# Altium schematic symbol library memory_sdram_ddr3.SchLib: 16 symbols
Pins are listed as number, name and electrical type; pins without a type are passive.

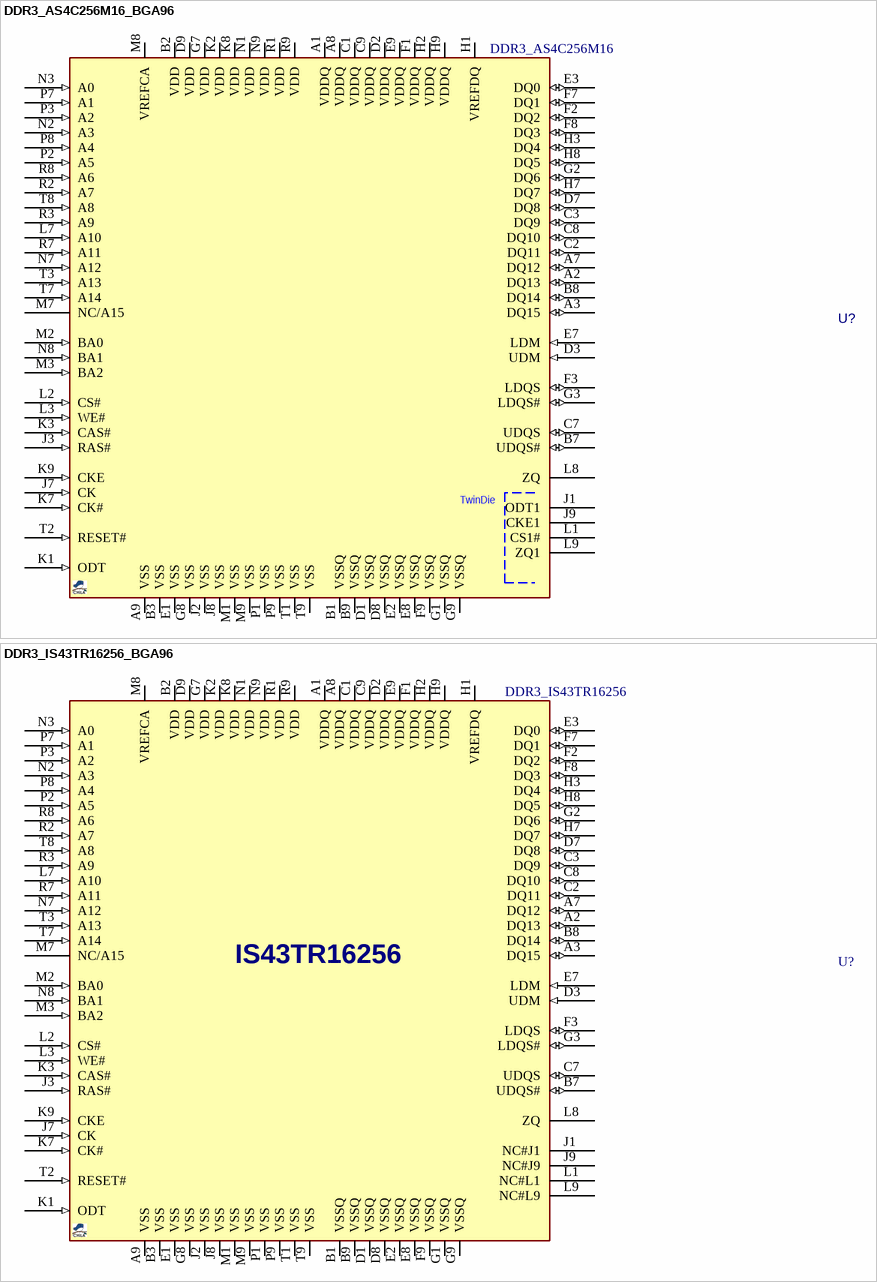
[diagram p0: symbols DDR3_AS4C256M16_BGA96 to DDR3_IS43TR16256_BGA96]

## DDR3_AS4C256M16_BGA96
designator U?, comment DDR3_AS4C256M16
DDR3L SDRAM, 4Gb (256Mb X16), 1.5V, FBGA-96; MANF_P#: AS4C256M16D3A-12BIN; MANF: ALLIANCE MEMORY; PARAM: 4Gb (256Mb X16), 800MHz; DESC: AS4C256M16D3A-12BAN; PARAM2: 1.5V, -40~95oC; ASSEMBLY: ASSEMBLY; PRICE: 10.9$; VALUE: DDR3_AS4C256M16
footprint BGA80_96_9X16B (96-Ball FBGA, 0.8mm pitch, 14x10x1.1 mm)
pins: A1 VDDQ (power), A2 DQ13 (io), A3 DQ15 (io), A7 DQ12 (io), A8 VDDQ (power), A9 VSS (power), B1 VSSQ (power), B2 VDD (power), B3 VSS (power), B7 UDQS# (io), B8 DQ14 (io), B9 VSSQ (power), C1 VDDQ (power), C2 DQ11 (io), C3 DQ9 (io), C7 UDQS (io), C8 DQ10 (io), C9 VDDQ (power), D1 VSSQ (power), D2 VDDQ (power), D3 UDM (in), D7 DQ8 (io), D8 VSSQ (power), D9 VDD (power), E1 VSS (power), E2 VSSQ (power), E3 DQ0 (io), E7 LDM (in), E8 VSSQ (power), E9 VDDQ (power), F1 VDDQ (power), F2 DQ2 (io), F3 LDQS (io), F7 DQ1 (io), F8 DQ3 (io), F9 VSSQ (power), G1 VSSQ (power), G2 DQ6 (io), G3 LDQS# (io), G7 VDD (power), G8 VSS (power), G9 VSSQ (power), H1 VREFDQ, H2 VDDQ (power), H3 DQ4 (io), H7 DQ7 (io), H8 DQ5 (io), H9 VDDQ (power), J1 ODT1, J2 VSS (power), J3 RAS# (in), J7 CK (in), J8 VSS (power), J9 CKE1, K1 ODT (in), K2 VDD (power), K3 CAS# (in), K7 CK# (in), K8 VDD (power), K9 CKE (in), L1 CS1#, L2 CS# (in), L3 WE# (in), L7 A10 (in), L8 ZQ, L9 ZQ1, M1 VSS (power), M2 BA0 (in), M3 BA2 (in), M7 NC/A15, M8 VREFCA, M9 VSS (power), N1 VDD (power), N2 A3 (in), N3 A0 (in), N7 A12 (in), N8 BA1 (in), N9 VDD (power), P1 VSS (power), P2 A5 (in), P3 A2 (in), P7 A1 (in), P8 A4 (in), P9 VSS (power), R1 VDD (power), R2 A7 (in), R3 A9 (in), R7 A11 (in), R8 A6 (in), R9 VDD (power), T1 VSS (power), T2 RESET# (in), T3 A13 (in), T7 A14 (in), T8 A8 (in), T9 VSS (power)
text: TwinDie

## DDR3_IS43TR16256_BGA96
designator U?, comment DDR3_IS43TR16256
DDR3 SDRAM, 4Gb (256Mb X16), 1.5V, FBGA-96; MANF: ISSI; MANF_P#: IS43TR16256A-125KBLI; PARAM2: 1.5V, 290mA, -40~+90oC; PARAM: DDR-1600, 800MHz; VALUE: DDR3_IS43TR16256
footprint BGA80_96_9X16B (96-Ball FBGA, 0.8mm pitch, 14x10x1.1 mm)
pins: A1 VDDQ (power), A2 DQ13 (io), A3 DQ15 (io), A7 DQ12 (io), A8 VDDQ (power), A9 VSS (power), B1 VSSQ (power), B2 VDD (power), B3 VSS (power), B7 UDQS# (io), B8 DQ14 (io), B9 VSSQ (power), C1 VDDQ (power), C2 DQ11 (io), C3 DQ9 (io), C7 UDQS (io), C8 DQ10 (io), C9 VDDQ (power), D1 VSSQ (power), D2 VDDQ (power), D3 UDM (in), D7 DQ8 (io), D8 VSSQ (power), D9 VDD (power), E1 VSS (power), E2 VSSQ (power), E3 DQ0 (io), E7 LDM (in), E8 VSSQ (power), E9 VDDQ (power), F1 VDDQ (power), F2 DQ2 (io), F3 LDQS (io), F7 DQ1 (io), F8 DQ3 (io), F9 VSSQ (power), G1 VSSQ (power), G2 DQ6 (io), G3 LDQS# (io), G7 VDD (power), G8 VSS (power), G9 VSSQ (power), H1 VREFDQ, H2 VDDQ (power), H3 DQ4 (io), H7 DQ7 (io), H8 DQ5 (io), H9 VDDQ (power), J1 NC#J1, J2 VSS (power), J3 RAS# (in), J7 CK (in), J8 VSS (power), J9 NC#J9, K1 ODT (in), K2 VDD (power), K3 CAS# (in), K7 CK# (in), K8 VDD (power), K9 CKE (in), L1 NC#L1, L2 CS# (in), L3 WE# (in), L7 A10 (in), L8 ZQ, L9 NC#L9, M1 VSS (power), M2 BA0 (in), M3 BA2 (in), M7 NC/A15, M8 VREFCA, M9 VSS (power), N1 VDD (power), N2 A3 (in), N3 A0 (in), N7 A12 (in), N8 BA1 (in), N9 VDD (power), P1 VSS (power), P2 A5 (in), P3 A2 (in), P7 A1 (in), P8 A4 (in), P9 VSS (power), R1 VDD (power), R2 A7 (in), R3 A9 (in), R7 A11 (in), R8 A6 (in), R9 VDD (power), T1 VSS (power), T2 RESET# (in), T3 A13 (in), T7 A14 (in), T8 A8 (in), T9 VSS (power)
text: IS43TR16256

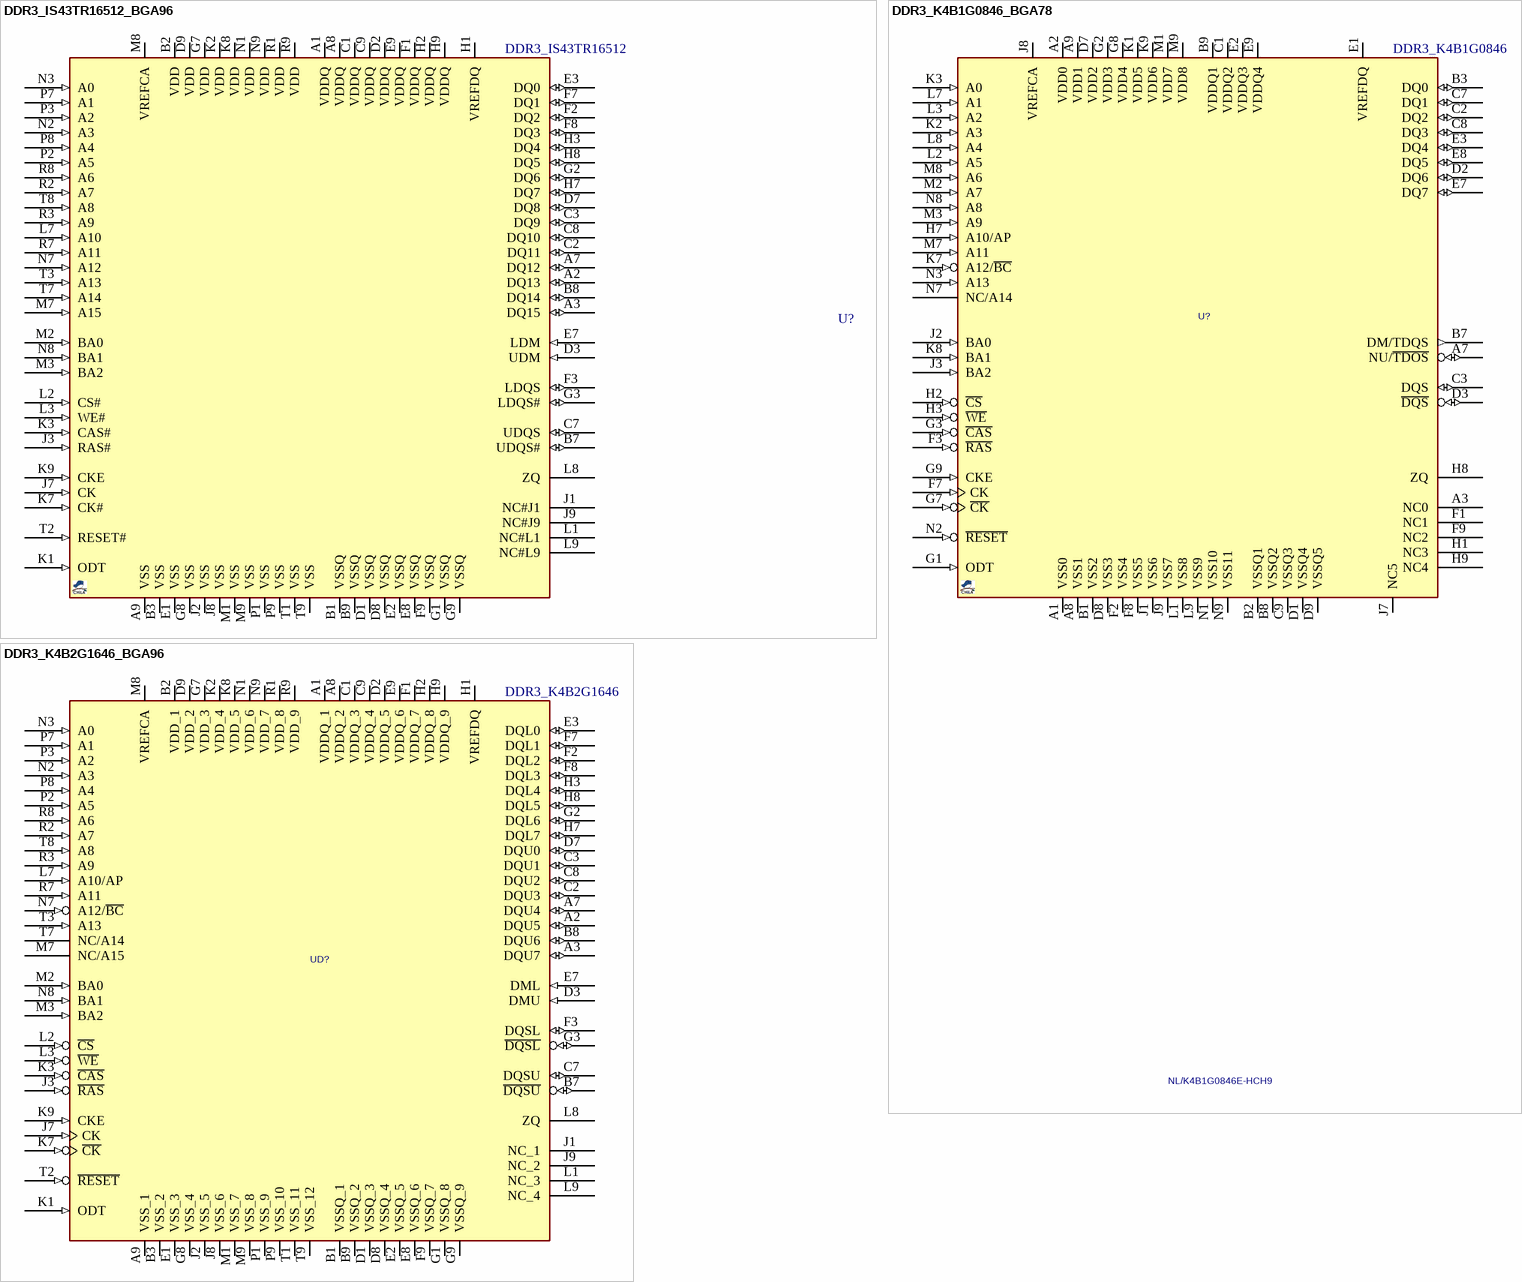
[diagram p1: symbols DDR3_IS43TR16512_BGA96 to DDR3_K4B2G1646_BGA96]

## DDR3_IS43TR16512_BGA96
designator U?, comment DDR3_IS43TR16512
DDR3L SDRAM, 8Gb (512Mb X16), 1.5V, FBGA-96; MANF: ISSI; MANF_P#: IS43TR16512A-125KBLI; PARAM2: 1.5V, -40~95oC; PARAM: 512Mb X16, 800MHz; PRICE: 40$; VALUE: DDR3_IS43TR16512
footprint BGA80_96_9X16B (96-Ball FBGA, 0.8mm pitch, 14x10x1.1 mm)
pins: A1 VDDQ (power), A2 DQ13 (io), A3 DQ15 (io), A7 DQ12 (io), A8 VDDQ (power), A9 VSS (power), B1 VSSQ (power), B2 VDD (power), B3 VSS (power), B7 UDQS# (io), B8 DQ14 (io), B9 VSSQ (power), C1 VDDQ (power), C2 DQ11 (io), C3 DQ9 (io), C7 UDQS (io), C8 DQ10 (io), C9 VDDQ (power), D1 VSSQ (power), D2 VDDQ (power), D3 UDM (in), D7 DQ8 (io), D8 VSSQ (power), D9 VDD (power), E1 VSS (power), E2 VSSQ (power), E3 DQ0 (io), E7 LDM (in), E8 VSSQ (power), E9 VDDQ (power), F1 VDDQ (power), F2 DQ2 (io), F3 LDQS (io), F7 DQ1 (io), F8 DQ3 (io), F9 VSSQ (power), G1 VSSQ (power), G2 DQ6 (io), G3 LDQS# (io), G7 VDD (power), G8 VSS (power), G9 VSSQ (power), H1 VREFDQ, H2 VDDQ (power), H3 DQ4 (io), H7 DQ7 (io), H8 DQ5 (io), H9 VDDQ (power), J1 NC#J1, J2 VSS (power), J3 RAS# (in), J7 CK (in), J8 VSS (power), J9 NC#J9, K1 ODT (in), K2 VDD (power), K3 CAS# (in), K7 CK# (in), K8 VDD (power), K9 CKE (in), L1 NC#L1, L2 CS# (in), L3 WE# (in), L7 A10 (in), L8 ZQ, L9 NC#L9, M1 VSS (power), M2 BA0 (in), M3 BA2 (in), M7 A15 (in), M8 VREFCA, M9 VSS (power), N1 VDD (power), N2 A3 (in), N3 A0 (in), N7 A12 (in), N8 BA1 (in), N9 VDD (power), P1 VSS (power), P2 A5 (in), P3 A2 (in), P7 A1 (in), P8 A4 (in), P9 VSS (power), R1 VDD (power), R2 A7 (in), R3 A9 (in), R7 A11 (in), R8 A6 (in), R9 VDD (power), T1 VSS (power), T2 RESET# (in), T3 A13 (in), T7 A14 (in), T8 A8 (in), T9 VSS (power)

## DDR3_K4B1G0846_BGA78
designator U?, comment NL/K4B1G0846E-HCH9  value DDR3_K4B1G0846
DDR3 SDRAM, 1Gb (64M X8) DDR3 1333, FBGA78p; MANF: SAMSUNG; MANF_P#: K4B1G0846E-HCH9
footprint BGA80_78_10X12 (BGA_78 7.5X11mm, 9.5X11.5mm, 10.5X12mm)
pins: A1 VSS0 (power), A2 VDD0 (power), A3 NC0, A7 NU/~{TDOS} (io), A8 VSS1 (power), A9 VDD1 (power), B1 VSS2 (power), B2 VSSQ1 (power), B3 DQ0 (io), B7 DM/TDQS (out), B8 VSSQ2 (power), B9 VDDQ1 (power), C1 VDDQ2 (power), C2 DQ2 (io), C3 DQS (io), C7 DQ1 (io), C8 DQ3 (io), C9 VSSQ3 (power), D1 VSSQ4 (power), D2 DQ6 (io), D3 ~{DQS} (io), D7 VDD2 (power), D8 VSS3 (power), D9 VSSQ5 (power), E1 VREFDQ (power), E2 VDDQ3 (power), E3 DQ4 (io), E7 DQ7 (io), E8 DQ5 (io), E9 VDDQ4 (power), F1 NC1, F2 VSS4 (power), F3 ~{RAS} (in), F7 CK (in), F8 VSS5 (power), F9 NC2, G1 ODT (in), G2 VDD3 (power), G3 ~{CAS} (in), G7 ~{CK} (in), G8 VDD4 (power), G9 CKE (in), H1 NC3, H2 ~{CS} (in), H3 ~{WE} (in), H7 A10/AP (in), H8 ZQ (power), H9 NC4, J1 VSS6 (power), J2 BA0 (in), J3 BA2 (in), J7 NC5, J8 VREFCA (power), J9 VSS7 (power), K1 VDD5 (power), K2 A3 (in), K3 A0 (in), K7 A12/~{BC} (in), K8 BA1 (in), K9 VDD6 (power), L1 VSS8 (power), L2 A5 (in), L3 A2 (in), L7 A1 (in), L8 A4 (in), L9 VSS9 (power), M1 VDD7 (power), M2 A7 (in), M3 A9 (in), M7 A11 (in), M8 A6 (in), M9 VDD8 (power), N1 VSS10 (power), N2 ~{RESET} (in), N3 A13 (in), N7 NC/A14, N8 A8 (in), N9 VSS11 (power)

## DDR3_K4B2G1646_BGA96
designator UD?, comment DDR3_K4B2G1646
DDR3 SDRAM, 2Gb (128M X16), DDR3 1333 FBGA96; MANF: SAMSUNG; MANF_P#: K4B2G1646B-HCF7; VALUE: DDR3_K4B2G1646
footprint BGA80_96_9X16B (96-Ball FBGA, 0.8mm pitch, 14x10x1.1 mm)
pins: A1 VDDQ_1 (power), A2 DQU5 (io), A3 DQU7 (io), A7 DQU4 (io), A8 VDDQ_2 (power), A9 VSS_1 (power), B1 VSSQ_1 (power), B2 VDD_1 (power), B3 VSS_2 (power), B7 ~{DQSU} (io), B8 DQU6 (io), B9 VSSQ_2 (power), C1 VDDQ_3 (power), C2 DQU3 (io), C3 DQU1 (io), C7 DQSU (io), C8 DQU2 (io), C9 VDDQ_4 (power), D1 VSSQ_3 (power), D2 VDDQ_5 (power), D3 DMU (in), D7 DQU0 (io), D8 VSSQ_4 (power), D9 VDD_2 (power), E1 VSS_3 (power), E2 VSSQ_5 (power), E3 DQL0 (io), E7 DML (in), E8 VSSQ_6 (power), E9 VDDQ_6 (power), F1 VDDQ_7 (power), F2 DQL2 (io), F3 DQSL (io), F7 DQL1 (io), F8 DQL3 (io), F9 VSSQ_7 (power), G1 VSSQ_8 (power), G2 DQL6 (io), G3 ~{DQSL} (io), G7 VDD_3 (power), G8 VSS_4 (power), G9 VSSQ_9 (power), H1 VREFDQ (power), H2 VDDQ_8 (power), H3 DQL4 (io), H7 DQL7 (io), H8 DQL5 (io), H9 VDDQ_9 (power), J1 NC_1, J2 VSS_5 (power), J3 ~{RAS} (in), J7 CK (in), J8 VSS_6 (power), J9 NC_2, K1 ODT (in), K2 VDD_4 (power), K3 ~{CAS} (in), K7 ~{CK} (in), K8 VDD_5 (power), K9 CKE (in), L1 NC_3, L2 ~{CS} (in), L3 ~{WE} (in), L7 A10/AP (in), L8 ZQ, L9 NC_4, M1 VSS_7 (power), M2 BA0 (in), M3 BA2 (in), M7 NC/A15, M8 VREFCA (power), M9 VSS_8 (power), N1 VDD_6 (power), N2 A3 (in), N3 A0 (in), N7 A12/~{BC} (in), N8 BA1 (in), N9 VDD_7 (power), P1 VSS_9 (power), P2 A5 (in), P3 A2 (in), P7 A1 (in), P8 A4 (in), P9 VSS_10 (power), R1 VDD_8 (power), R2 A7 (in), R3 A9 (in), R7 A11 (in), R8 A6 (in), R9 VDD_9 (power), T1 VSS_11 (power), T2 ~{RESET} (in), T3 A13 (in), T7 NC/A14, T8 A8 (in), T9 VSS_12 (power)

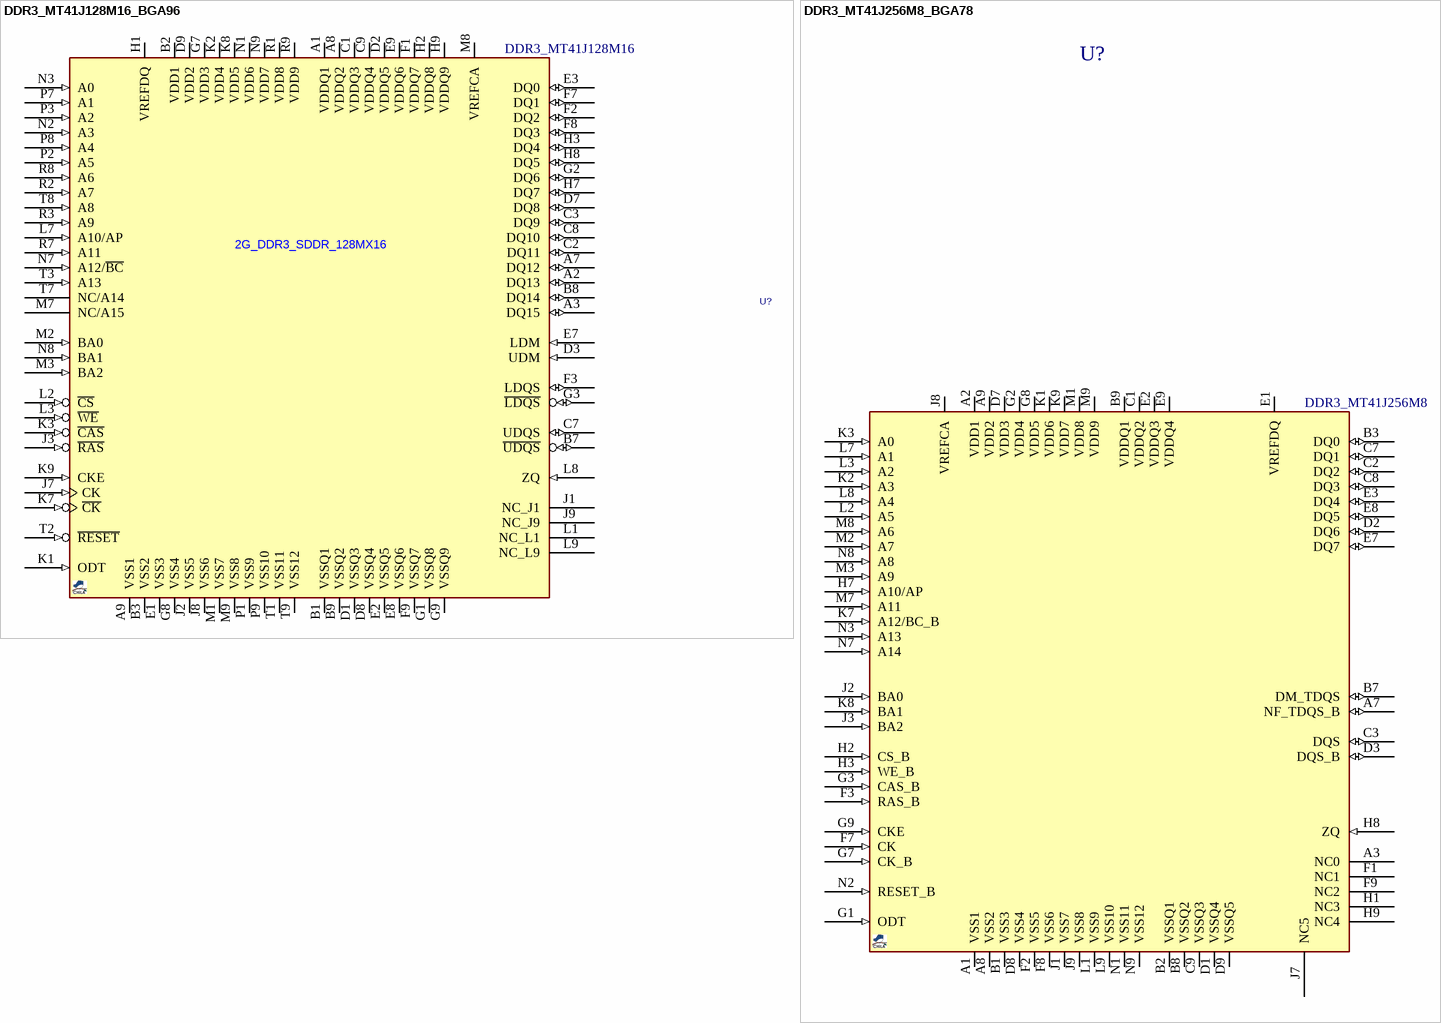
[diagram p2: symbols DDR3_MT41J128M16_BGA96 to DDR3_MT41J256M8_BGA78]

## DDR3_MT41J128M16_BGA96
designator U?, comment DDR3_MT41J128M16
DDR3 SDRAM, 2Gb (128Mb X16), 667MHz, 1.5V, FBGA-96; DESC: 2G (128M x 16), 667MHz, 96-FBGA (9x14); MANF: MICRON; MANF_P#: MT41J128M16HA-15E:D; PARAM2: 1.5V; VALUE: DDR3_MT41J128M16
footprint BGA80_96_9X16B (96-Ball FBGA, 0.8mm pitch, 14x10x1.1 mm)
pins: A1 VDDQ1 (power), A2 DQ13 (io), A3 DQ15 (io), A7 DQ12 (io), A8 VDDQ2 (power), A9 VSS1 (power), B1 VSSQ1 (power), B2 VDD1 (power), B3 VSS2 (power), B7 ~{UDQS} (io), B8 DQ14 (io), B9 VSSQ2 (power), C1 VDDQ3 (power), C2 DQ11 (io), C3 DQ9 (io), C7 UDQS (io), C8 DQ10 (io), C9 VDDQ4 (power), D1 VSSQ3 (power), D2 VDDQ5 (power), D3 UDM (in), D7 DQ8 (io), D8 VSSQ4 (power), D9 VDD2 (power), E1 VSS3 (power), E2 VSSQ5 (power), E3 DQ0 (io), E7 LDM (in), E8 VSSQ6 (power), E9 VDDQ6 (power), F1 VDDQ7 (power), F2 DQ2 (io), F3 LDQS (io), F7 DQ1 (io), F8 DQ3 (io), F9 VSSQ7 (power), G1 VSSQ8 (power), G2 DQ6 (io), G3 ~{LDQS} (io), G7 VDD3 (power), G8 VSS4 (power), G9 VSSQ9 (power), H1 VREFDQ, H2 VDDQ8 (power), H3 DQ4 (io), H7 DQ7 (io), H8 DQ5 (io), H9 VDDQ9 (power), J1 NC_J1, J2 VSS5 (power), J3 ~{RAS} (in), J7 CK (in), J8 VSS6 (power), J9 NC_J9, K1 ODT (in), K2 VDD4 (power), K3 ~{CAS} (in), K7 ~{CK} (in), K8 VDD5 (power), K9 CKE (in), L1 NC_L1, L2 ~{CS} (in), L3 ~{WE} (in), L7 A10/AP (in), L8 ZQ (in), L9 NC_L9, M1 VSS7 (power), M2 BA0 (in), M3 BA2 (in), M7 NC/A15, M8 VREFCA, M9 VSS8 (power), N1 VDD6 (power), N2 A3 (in), N3 A0 (in), N7 A12/~{BC} (in), N8 BA1 (in), N9 VDD7 (power), P1 VSS9 (power), P2 A5 (in), P3 A2 (in), P7 A1 (in), P8 A4 (in), P9 VSS10 (power), R1 VDD8 (power), R2 A7 (in), R3 A9 (in), R7 A11 (in), R8 A6 (in), R9 VDD9 (power), T1 VSS11 (power), T2 ~{RESET} (in), T3 A13 (in), T7 NC/A14, T8 A8 (in), T9 VSS12 (power)
text: 2G_DDR3_SDDR_128MX16

## DDR3_MT41J256M8_BGA78
designator U?, comment value DDR3_MT41J256M8  (hidden comment: MT41J256M8DA_107)
DDR3 SDRAM, 2Gb (256M X8), FBGA-78; MANF: MICRON; MANF_P#: MT41J256M8HX-15E; DESC: DDR3 SDRAM, 2Gb (256M X8), FBGA-78
footprint BGA80_78_10X12 (BGA_78 7.5X11mm, 9.5X11.5mm, 10.5X12mm)
pins: A1 VSS1 (power), A2 VDD1 (power), A3 NC0, A7 NF_TDQS_B (io), A8 VSS2 (power), A9 VDD2 (power), B1 VSS3 (power), B2 VSSQ1 (power), B3 DQ0 (io), B7 DM_TDQS (io), B8 VSSQ2 (power), B9 VDDQ1 (power), C1 VDDQ2 (power), C2 DQ2 (io), C3 DQS (io), C7 DQ1 (io), C8 DQ3 (io), C9 VSSQ3 (power), D1 VSSQ4 (power), D2 DQ6 (io), D3 DQS_B (io), D7 VDD3 (power), D8 VSS4 (power), D9 VSSQ5 (power), E1 VREFDQ, E2 VDDQ3 (power), E3 DQ4 (io), E7 DQ7 (io), E8 DQ5 (io), E9 VDDQ4 (power), F1 NC1, F2 VSS5 (power), F3 RAS_B (in), F7 CK (in), F8 VSS6 (power), F9 NC2, G1 ODT (in), G2 VDD4 (power), G3 CAS_B (in), G7 CK_B (in), G8 VDD5 (power), G9 CKE (in), H1 NC3, H2 CS_B (in), H3 WE_B (in), H7 A10/AP (in), H8 ZQ (in), H9 NC4, J1 VSS7 (power), J2 BA0 (in), J3 BA2 (in), J7 NC5, J8 VREFCA, J9 VSS8 (power), K1 VDD6 (power), K2 A3 (in), K3 A0 (in), K7 A12/BC_B (in), K8 BA1 (in), K9 VDD7 (power), L1 VSS9 (power), L2 A5 (in), L3 A2 (in), L7 A1 (in), L8 A4 (in), L9 VSS10 (power), M1 VDD8 (power), M2 A7 (in), M3 A9 (in), M7 A11 (in), M8 A6 (in), M9 VDD9 (power), N1 VSS11 (power), N2 RESET_B (in), N3 A13 (in), N7 A14 (in), N8 A8 (in), N9 VSS12 (power)

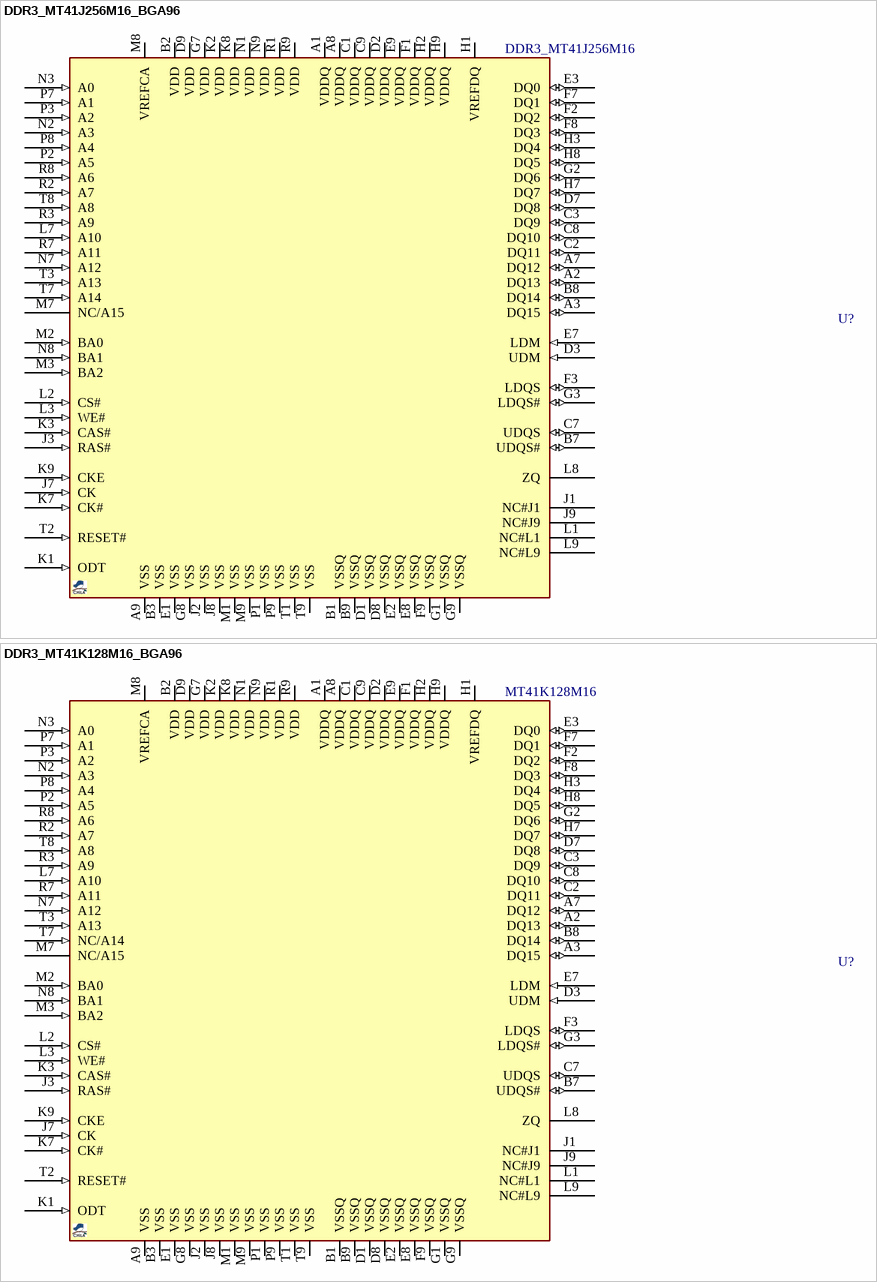
[diagram p3: symbols DDR3_MT41J256M16_BGA96 to DDR3_MT41K128M16_BGA96]

## DDR3_MT41J256M16_BGA96
designator U?, comment DDR3_MT41J256M16
DDR3 SDRAM, 4Gb (256Mb X16), 1.5V, FBGA-96; DESC: MT41J256M16RE-15E; MANF: MICRON; MANF_P#: MT41J256M16LY-091G:N,  MT41J128M16JT-125:K TR; PARAM2: 1.5V, 0~95oC; PARAM: 256Mb X16,; PRICE: 11$; VALUE: DDR3_MT41J256M16
footprint BGA80_96_9X16B (96-Ball FBGA, 0.8mm pitch, 14x10x1.1 mm)
pins: A1 VDDQ (power), A2 DQ13 (io), A3 DQ15 (io), A7 DQ12 (io), A8 VDDQ (power), A9 VSS (power), B1 VSSQ (power), B2 VDD (power), B3 VSS (power), B7 UDQS# (io), B8 DQ14 (io), B9 VSSQ (power), C1 VDDQ (power), C2 DQ11 (io), C3 DQ9 (io), C7 UDQS (io), C8 DQ10 (io), C9 VDDQ (power), D1 VSSQ (power), D2 VDDQ (power), D3 UDM (in), D7 DQ8 (io), D8 VSSQ (power), D9 VDD (power), E1 VSS (power), E2 VSSQ (power), E3 DQ0 (io), E7 LDM (in), E8 VSSQ (power), E9 VDDQ (power), F1 VDDQ (power), F2 DQ2 (io), F3 LDQS (io), F7 DQ1 (io), F8 DQ3 (io), F9 VSSQ (power), G1 VSSQ (power), G2 DQ6 (io), G3 LDQS# (io), G7 VDD (power), G8 VSS (power), G9 VSSQ (power), H1 VREFDQ, H2 VDDQ (power), H3 DQ4 (io), H7 DQ7 (io), H8 DQ5 (io), H9 VDDQ (power), J1 NC#J1, J2 VSS (power), J3 RAS# (in), J7 CK (in), J8 VSS (power), J9 NC#J9, K1 ODT (in), K2 VDD (power), K3 CAS# (in), K7 CK# (in), K8 VDD (power), K9 CKE (in), L1 NC#L1, L2 CS# (in), L3 WE# (in), L7 A10 (in), L8 ZQ, L9 NC#L9, M1 VSS (power), M2 BA0 (in), M3 BA2 (in), M7 NC/A15, M8 VREFCA, M9 VSS (power), N1 VDD (power), N2 A3 (in), N3 A0 (in), N7 A12 (in), N8 BA1 (in), N9 VDD (power), P1 VSS (power), P2 A5 (in), P3 A2 (in), P7 A1 (in), P8 A4 (in), P9 VSS (power), R1 VDD (power), R2 A7 (in), R3 A9 (in), R7 A11 (in), R8 A6 (in), R9 VDD (power), T1 VSS (power), T2 RESET# (in), T3 A13 (in), T7 A14 (in), T8 A8 (in), T9 VSS (power)

## DDR3_MT41K128M16_BGA96
designator U?, comment MT41K128M16
DDR3 SDRAM, 2Gb (128Mb X16), 1.35V, FBGA-96; MANF: MICRON; MANF_P#: MT41K128M16JT-125; PARAM2: 1.35V; VALUE: MT41K128M16
footprint BGA80_96_9X16B (96-Ball FBGA, 0.8mm pitch, 14x10x1.1 mm)
pins: A1 VDDQ (power), A2 DQ13 (io), A3 DQ15 (io), A7 DQ12 (io), A8 VDDQ (power), A9 VSS (power), B1 VSSQ (power), B2 VDD (power), B3 VSS (power), B7 UDQS# (io), B8 DQ14 (io), B9 VSSQ (power), C1 VDDQ (power), C2 DQ11 (io), C3 DQ9 (io), C7 UDQS (io), C8 DQ10 (io), C9 VDDQ (power), D1 VSSQ (power), D2 VDDQ (power), D3 UDM (in), D7 DQ8 (io), D8 VSSQ (power), D9 VDD (power), E1 VSS (power), E2 VSSQ (power), E3 DQ0 (io), E7 LDM (in), E8 VSSQ (power), E9 VDDQ (power), F1 VDDQ (power), F2 DQ2 (io), F3 LDQS (io), F7 DQ1 (io), F8 DQ3 (io), F9 VSSQ (power), G1 VSSQ (power), G2 DQ6 (io), G3 LDQS# (io), G7 VDD (power), G8 VSS (power), G9 VSSQ (power), H1 VREFDQ, H2 VDDQ (power), H3 DQ4 (io), H7 DQ7 (io), H8 DQ5 (io), H9 VDDQ (power), J1 NC#J1, J2 VSS (power), J3 RAS# (in), J7 CK (in), J8 VSS (power), J9 NC#J9, K1 ODT (in), K2 VDD (power), K3 CAS# (in), K7 CK# (in), K8 VDD (power), K9 CKE (in), L1 NC#L1, L2 CS# (in), L3 WE# (in), L7 A10 (in), L8 ZQ, L9 NC#L9, M1 VSS (power), M2 BA0 (in), M3 BA2 (in), M7 NC/A15, M8 VREFCA, M9 VSS (power), N1 VDD (power), N2 A3 (in), N3 A0 (in), N7 A12 (in), N8 BA1 (in), N9 VDD (power), P1 VSS (power), P2 A5 (in), P3 A2 (in), P7 A1 (in), P8 A4 (in), P9 VSS (power), R1 VDD (power), R2 A7 (in), R3 A9 (in), R7 A11 (in), R8 A6 (in), R9 VDD (power), T1 VSS (power), T2 RESET# (in), T3 A13 (in), T7 NC/A14 (in), T8 A8 (in), T9 VSS (power)

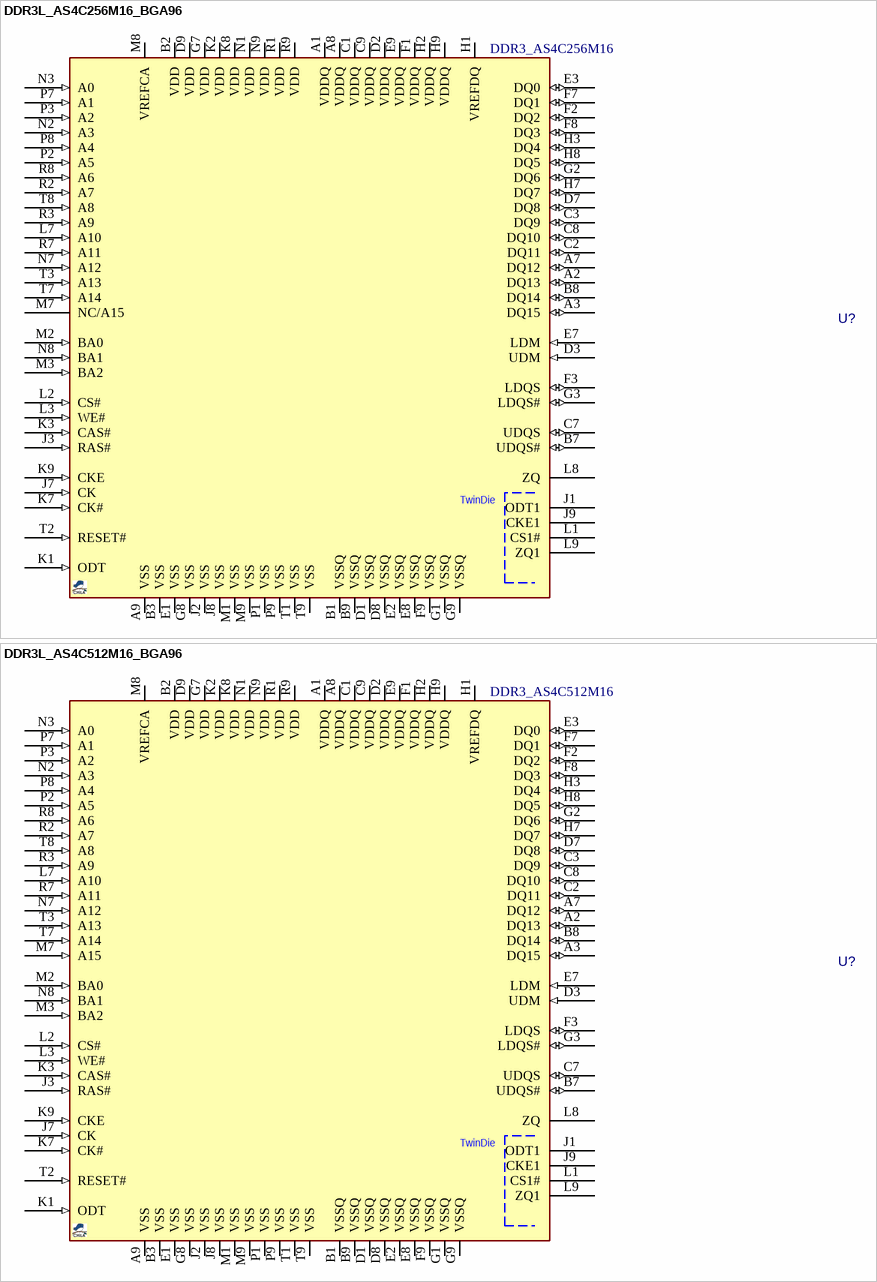
[diagram p4: symbols DDR3L_AS4C256M16_BGA96 to DDR3L_AS4C512M16_BGA96]

## DDR3L_AS4C256M16_BGA96
designator U?, comment DDR3_AS4C256M16
DDR3L SDRAM, 4Gb (256Mb X16), 1.35V, FBGA-96; MANF_P#: AS4C256M16D3LB-12BIN; MANF: ALLIANCE MEMORY; PARAM: 4Gb (256Mb X16), 800MHz; DESC: AS4C256M16D3LA-12BIN; PARAM2: 1.35V, -40~95oC; ASSEMBLY: ASSEMBLY; PRICE: 10.4$; VALUE: DDR3_AS4C256M16
footprint BGA80_96_9X16B (96-Ball FBGA, 0.8mm pitch, 14x10x1.1 mm)
pins: A1 VDDQ (power), A2 DQ13 (io), A3 DQ15 (io), A7 DQ12 (io), A8 VDDQ (power), A9 VSS (power), B1 VSSQ (power), B2 VDD (power), B3 VSS (power), B7 UDQS# (io), B8 DQ14 (io), B9 VSSQ (power), C1 VDDQ (power), C2 DQ11 (io), C3 DQ9 (io), C7 UDQS (io), C8 DQ10 (io), C9 VDDQ (power), D1 VSSQ (power), D2 VDDQ (power), D3 UDM (in), D7 DQ8 (io), D8 VSSQ (power), D9 VDD (power), E1 VSS (power), E2 VSSQ (power), E3 DQ0 (io), E7 LDM (in), E8 VSSQ (power), E9 VDDQ (power), F1 VDDQ (power), F2 DQ2 (io), F3 LDQS (io), F7 DQ1 (io), F8 DQ3 (io), F9 VSSQ (power), G1 VSSQ (power), G2 DQ6 (io), G3 LDQS# (io), G7 VDD (power), G8 VSS (power), G9 VSSQ (power), H1 VREFDQ, H2 VDDQ (power), H3 DQ4 (io), H7 DQ7 (io), H8 DQ5 (io), H9 VDDQ (power), J1 ODT1, J2 VSS (power), J3 RAS# (in), J7 CK (in), J8 VSS (power), J9 CKE1, K1 ODT (in), K2 VDD (power), K3 CAS# (in), K7 CK# (in), K8 VDD (power), K9 CKE (in), L1 CS1#, L2 CS# (in), L3 WE# (in), L7 A10 (in), L8 ZQ, L9 ZQ1, M1 VSS (power), M2 BA0 (in), M3 BA2 (in), M7 NC/A15, M8 VREFCA, M9 VSS (power), N1 VDD (power), N2 A3 (in), N3 A0 (in), N7 A12 (in), N8 BA1 (in), N9 VDD (power), P1 VSS (power), P2 A5 (in), P3 A2 (in), P7 A1 (in), P8 A4 (in), P9 VSS (power), R1 VDD (power), R2 A7 (in), R3 A9 (in), R7 A11 (in), R8 A6 (in), R9 VDD (power), T1 VSS (power), T2 RESET# (in), T3 A13 (in), T7 A14 (in), T8 A8 (in), T9 VSS (power)
text: TwinDie

## DDR3L_AS4C512M16_BGA96
designator U?, comment DDR3_AS4C512M16
DDR3L SDRAM, 8Gb (512Mb X16), 1.35V, FBGA-96; MANF_P#: AS4C512M16D3L-12BIN; MANF: ALLIANCE MEMORY; PARAM2: 1.35V, -40~95oC; ASSEMBLY: ASSEMBLY; PARAM: 8Gb (512Mb X16); PRICE: 31$; VALUE: DDR3_AS4C512M16
footprint BGA80_96_9X16B (96-Ball FBGA, 0.8mm pitch, 14x10x1.1 mm)
pins: A1 VDDQ (power), A2 DQ13 (io), A3 DQ15 (io), A7 DQ12 (io), A8 VDDQ (power), A9 VSS (power), B1 VSSQ (power), B2 VDD (power), B3 VSS (power), B7 UDQS# (io), B8 DQ14 (io), B9 VSSQ (power), C1 VDDQ (power), C2 DQ11 (io), C3 DQ9 (io), C7 UDQS (io), C8 DQ10 (io), C9 VDDQ (power), D1 VSSQ (power), D2 VDDQ (power), D3 UDM (in), D7 DQ8 (io), D8 VSSQ (power), D9 VDD (power), E1 VSS (power), E2 VSSQ (power), E3 DQ0 (io), E7 LDM (in), E8 VSSQ (power), E9 VDDQ (power), F1 VDDQ (power), F2 DQ2 (io), F3 LDQS (io), F7 DQ1 (io), F8 DQ3 (io), F9 VSSQ (power), G1 VSSQ (power), G2 DQ6 (io), G3 LDQS# (io), G7 VDD (power), G8 VSS (power), G9 VSSQ (power), H1 VREFDQ, H2 VDDQ (power), H3 DQ4 (io), H7 DQ7 (io), H8 DQ5 (io), H9 VDDQ (power), J1 ODT1, J2 VSS (power), J3 RAS# (in), J7 CK (in), J8 VSS (power), J9 CKE1, K1 ODT (in), K2 VDD (power), K3 CAS# (in), K7 CK# (in), K8 VDD (power), K9 CKE (in), L1 CS1#, L2 CS# (in), L3 WE# (in), L7 A10 (in), L8 ZQ, L9 ZQ1, M1 VSS (power), M2 BA0 (in), M3 BA2 (in), M7 A15 (in), M8 VREFCA, M9 VSS (power), N1 VDD (power), N2 A3 (in), N3 A0 (in), N7 A12 (in), N8 BA1 (in), N9 VDD (power), P1 VSS (power), P2 A5 (in), P3 A2 (in), P7 A1 (in), P8 A4 (in), P9 VSS (power), R1 VDD (power), R2 A7 (in), R3 A9 (in), R7 A11 (in), R8 A6 (in), R9 VDD (power), T1 VSS (power), T2 RESET# (in), T3 A13 (in), T7 A14 (in), T8 A8 (in), T9 VSS (power)
text: TwinDie

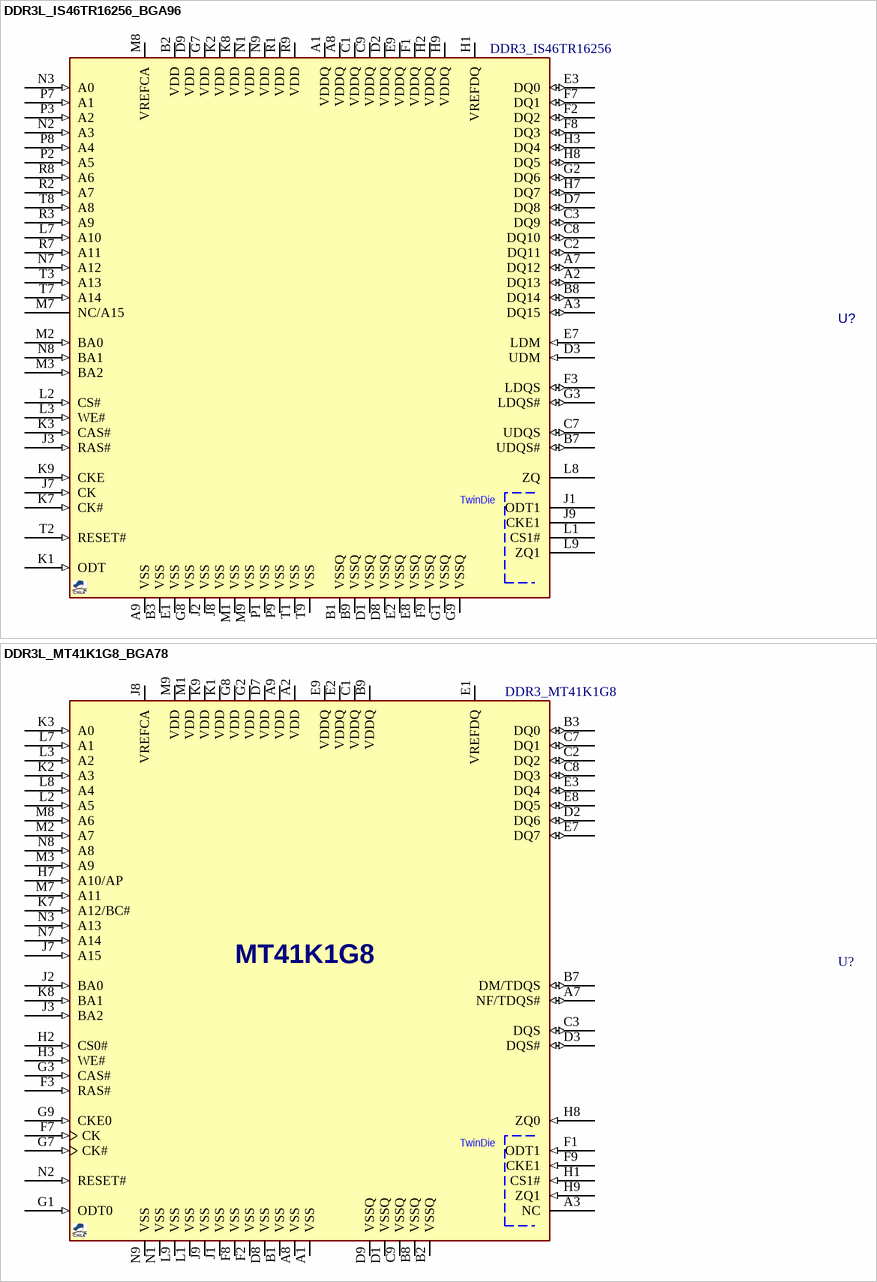
[diagram p5: symbols DDR3L_IS46TR16256_BGA96 to DDR3L_MT41K1G8_BGA78]

## DDR3L_IS46TR16256_BGA96
designator U?, comment DDR3_IS46TR16256
DDR3L SDRAM, 4Gb (256Mb X16), 1.35V, FBGA-96; MANF_P#: IS46TR16256AL-15HBLA2; MANF: ISSI; PARAM: 4Gb (256Mb X16), 666MHz; PARAM2: 1.35V, -40~95oC; ASSEMBLY: ASSEMBLY; PRICE: 23$; VALUE: DDR3_IS46TR16256
footprint BGA80_96_9X16B (96-Ball FBGA, 0.8mm pitch, 14x10x1.1 mm)
pins: A1 VDDQ (power), A2 DQ13 (io), A3 DQ15 (io), A7 DQ12 (io), A8 VDDQ (power), A9 VSS (power), B1 VSSQ (power), B2 VDD (power), B3 VSS (power), B7 UDQS# (io), B8 DQ14 (io), B9 VSSQ (power), C1 VDDQ (power), C2 DQ11 (io), C3 DQ9 (io), C7 UDQS (io), C8 DQ10 (io), C9 VDDQ (power), D1 VSSQ (power), D2 VDDQ (power), D3 UDM (in), D7 DQ8 (io), D8 VSSQ (power), D9 VDD (power), E1 VSS (power), E2 VSSQ (power), E3 DQ0 (io), E7 LDM (in), E8 VSSQ (power), E9 VDDQ (power), F1 VDDQ (power), F2 DQ2 (io), F3 LDQS (io), F7 DQ1 (io), F8 DQ3 (io), F9 VSSQ (power), G1 VSSQ (power), G2 DQ6 (io), G3 LDQS# (io), G7 VDD (power), G8 VSS (power), G9 VSSQ (power), H1 VREFDQ, H2 VDDQ (power), H3 DQ4 (io), H7 DQ7 (io), H8 DQ5 (io), H9 VDDQ (power), J1 ODT1, J2 VSS (power), J3 RAS# (in), J7 CK (in), J8 VSS (power), J9 CKE1, K1 ODT (in), K2 VDD (power), K3 CAS# (in), K7 CK# (in), K8 VDD (power), K9 CKE (in), L1 CS1#, L2 CS# (in), L3 WE# (in), L7 A10 (in), L8 ZQ, L9 ZQ1, M1 VSS (power), M2 BA0 (in), M3 BA2 (in), M7 NC/A15, M8 VREFCA, M9 VSS (power), N1 VDD (power), N2 A3 (in), N3 A0 (in), N7 A12 (in), N8 BA1 (in), N9 VDD (power), P1 VSS (power), P2 A5 (in), P3 A2 (in), P7 A1 (in), P8 A4 (in), P9 VSS (power), R1 VDD (power), R2 A7 (in), R3 A9 (in), R7 A11 (in), R8 A6 (in), R9 VDD (power), T1 VSS (power), T2 RESET# (in), T3 A13 (in), T7 A14 (in), T8 A8 (in), T9 VSS (power)
text: TwinDie

## DDR3L_MT41K1G8_BGA78
designator U?, comment DDR3_MT41K1G8
DDR3 SDRAM, 8Gb (1Gb X8), 1.35V, FBGA-78; MANF: MICRON; MANF_P#: MT41K1G8TRF-125; PARAM: DDR3-1600 800 MHz, 1.25ns, CL=11, x8; PARAM2: 1.35V; VALUE: DDR3_MT41K1G8
footprint BGA80_78_10X12 (BGA_78 7.5X11mm, 9.5X11.5mm, 10.5X12mm)
pins: A1 VSS (power) "Ground.", A2 VDD (power) "Power supply: 1.35V (1.283V to 1.45V operational; compatible with 1.5V operation)", A3 NC "No connect: These balls should be left unconnected (the ball has no connection to the DRAM or to other balls).", A7 NF/TDQS# (io) "Termination data strobe: Applies to the x8 configuration only. When TDQS is enabled, DM is disabled, and the TDQS and TDQS# balls provide termination resistance.", A8 VSS (power) "Ground.", A9 VDD (power) "Power supply: 1.35V (1.283V to 1.45V operational; compatible with 1.5V operation)", B1 VSS (power) "Ground", B2 VSSQ (power) "DQ ground: Isolated on the device for improved noise immunity.", B3 DQ0 (io) "Data input/output: Bidirectional data bus for x8 configuration. DQ[7:0] are referenced to VREFDQ.", B7 DM/TDQS (io) "Termination data strobe: Applies to the x8 configuration only. When TDQS is enabled, DM is disabled, and the TDQS and TDQS# balls provide termination resistance. Input data mask: DM is an input mask signal for write data. (See Datasheet)", B8 VSSQ (power) "DQ ground: Isolated on the device for improved noise immunity.", B9 VDDQ (power) "DQ power supply: 1.35V (1.283V to 1.45V operational; compatible with 1.5V operation). Isolated on the device for improved noise immunity.", C1 VDDQ (power) "DQ power supply: 1.35V (1.283V to 1.45V operational; compatible with 1.5V operation). Isolated on the device for improved noise immunity.", C2 DQ2 (io) "Data input/output: Bidirectional data bus for x8 configuration. DQ[7:0] are referenced to VREFDQ.", C3 DQS (io) "Data strobe: DQS and DQS# are differential data strobes: Output with read data; edge aligned with read data; input with write data; center-aligned with write data.", C7 DQ1 (io) "Data input/output: Bidirectional data bus for x8 configuration. DQ[7:0] are referenced to VREFDQ.", C8 DQ3 (io) "Data input/output: Bidirectional data bus for x8 configuration. DQ[7:0] are referenced to VREFDQ.", C9 VSSQ (power) "DQ ground: Isolated on the device for improved noise immunity.", D1 VSSQ (power) "DQ ground: Isolated on the device for improved noise immunity.", D2 DQ6 (io) "Data input/output: Bidirectional data bus for x8 configuration. DQ[7:0] are referenced to VREFDQ.", D3 DQS# (io) "Data strobe: DQS and DQS# are differential data strobes: Output with read data; edge aligned with read data; input with write data; center-aligned with write data.", D7 VDD (power) "Power supply: 1.35V (1.283V to 1.45V operational; compatible with 1.5V operation)", D8 VSS (power) "Ground.", D9 VSSQ (power) "DQ ground: Isolated on the device for improved noise immunity.", E1 VREFDQ "Reference voltage for data: VREFDQ must be maintained at all times (including self refresh) for proper device operation.", E2 VDDQ (power) "DQ power supply: 1.35V (1.283V to 1.45V operational; compatible with 1.5V operation). Isolated on the device for improved noise immunity.", E3 DQ4 (io) "Data input/output: Bidirectional data bus for x8 configuration. DQ[7:0] are referenced to VREFDQ.", E7 DQ7 (io) "Data input/output: Bidirectional data bus for x8 configuration. DQ[7:0] are referenced to VREFDQ.", E8 DQ5 (io) "Data input/output: Bidirectional data bus for x8 configuration. DQ[7:0] are referenced to VREFDQ.", E9 VDDQ (power) "DQ power supply: 1.35V (1.283V to 1.45V operational; compatible with 1.5V operation). Isolated on the device for improved noise immunity.", F1 ODT1 (in) "On-die termination: ODT enables (registered HIGH) and disables (registered LOW) termination resistance internal to the DDR3L SDRAM. When enabled in normal operation, ODT is only applied to each of the following balls: (See Datasheet)", F2 VSS (power) "Ground.", F3 RAS# (in) "Command inputs: RAS#, CAS#, and WE# (along with CS#) define the command being entered and are referenced to VREFCA.", F7 CK (in) "Clock: CK and CK# are differential clock inputs. All command, address, and control input signals are sampled on the crossing of the positive edge of CK and the negative edge of CK#. Output data strobe (DQS, DQS#) is (See Datasheet)", F8 VSS (power) "Ground.", F9 CKE1 (in) "Clock enable: CKE enables (registered HIGH) and disables (registered LOW) internal circuitry and clocks on the DRAM. The specific circuitry that is enabled/disabled is dependent upon the DDR3L SDRAM configuration and (See Datasheet)", G1 ODT0 (in) "On-die termination: ODT enables (registered HIGH) and disables (registered LOW) termination resistance internal to the DDR3L SDRAM. When enabled in normal operation, ODT is only applied to each of the following balls: (See Datasheet)", G2 VDD (power) "Power supply: 1.35V (1.283V to 1.45V operational; compatible with 1.5V operation)", G3 CAS# (in) "Command inputs: RAS#, CAS#, and WE# (along with CS#) define the command being entered and are referenced to VREFCA.", G7 CK# (in) "Clock: CK and CK# are differential clock inputs. All command, address, and control input signals are sampled on the crossing of the positive edge of CK and the negative edge of CK#. Output data strobe (DQS, DQS#) is (See Datasheet)", G8 VDD (power) "Power supply: 1.35V (1.283V to 1.45V operational; compatible with 1.5V operation)", G9 CKE0 (in) "Clock enable: CKE enables (registered HIGH) and disables (registered LOW) internal circuitry and clocks on the DRAM. The specific circuitry that is enabled/disabled is dependent upon the DDR3L SDRAM configuration and (See Datasheet)", H1 CS1# (in) "Chip select: CS# enables (registered LOW) and disables (registered HIGH) the command decoder. All commands are masked when CS# is registered HIGH. CS# provides for external rank selection on systems with multiple ranks. CS# (See Datasheet)", H2 CS0# (in) "Chip select: CS# enables (registered LOW) and disables (registered HIGH) the command decoder. All commands are masked when CS# is registered HIGH. CS# provides for external rank selection on systems with multiple ranks. CS# (See Datasheet)", H3 WE# (in) "Command inputs: RAS#, CAS#, and WE# (along with CS#) define the command being entered and are referenced to VREFCA.", H7 A10/AP (in) "Address inputs: Provide the row address for ACTIVATE commands, and the column address and auto precharge bit (A10) for READ/WRITE commands, to select one location out of the memory array in the respective bank. A10 sampled (See Datasheet)", H8 ZQ0 (in) "External reference ball for output drive calibration: This ball is tied to an external 240ohm resistor (RZQ), which is tied to VSSQ.", H9 ZQ1 (in) "External reference ball for output drive calibration: This ball is tied to an external 240ohm resistor (RZQ), which is tied to VSSQ.", J1 VSS (power) "Ground.", J2 BA0 (in) "Bank address inputs: BA[2:0] define the bank to which an ACTIVATE, READ, WRITE, or PRECHARGE command is being applied. BA[2:0] define which mode register (MR0, MR1, MR2, or MR3) is loaded during the LOAD MODE command. (See Datasheet)", J3 BA2 (in) "Bank address inputs: BA[2:0] define the bank to which an ACTIVATE, READ, WRITE, or PRECHARGE command is being applied. BA[2:0] define which mode register (MR0, MR1, MR2, or MR3) is loaded during the LOAD MODE command. (See Datasheet)", J7 A15 (in) "Address inputs: Provide the row address for ACTIVATE commands, and the column address and auto precharge bit (A10) for READ/WRITE commands, to select one location out of the memory array in the respective bank. A10 sampled (See Datasheet)", J8 VREFCA "Reference voltage for control, command, and address: VREFCA must be maintained at all times (including self refresh) for proper device operation.", J9 VSS (power) "Ground.", K1 VDD (power) "Power supply: 1.35V (1.283V to 1.45V operational; compatible with 1.5V operation)", K2 A3 (in) "Address inputs: Provide the row address for ACTIVATE commands, and the column address and auto precharge bit (A10) for READ/WRITE commands, to select one location out of the memory array in the respective bank. A10 sampled (See Datasheet)", K3 A0 (in) "Address inputs: Provide the row address for ACTIVATE commands, and the column address and auto precharge bit (A10) for READ/WRITE commands, to select one location out of the memory array in the respective bank. A10 sampled (See Datasheet)", K7 A12/BC# (in) "Address inputs: Provide the row address for ACTIVATE commands, and the column address and auto precharge bit (A10) for READ/WRITE commands, to select one location out of the memory array in the respective bank. A10 sampled (See Datasheet)", K8 BA1 (in) "Bank address inputs: BA[2:0] define the bank to which an ACTIVATE, READ, WRITE, or PRECHARGE command is being applied. BA[2:0] define which mode register (MR0, MR1, MR2, or MR3) is loaded during the LOAD MODE command. (See Datasheet)", K9 VDD (power) "Power supply: 1.35V (1.283V to 1.45V operational; compatible with 1.5V operation)", L1 VSS (power) "Ground.", L2 A5 (in) "Address inputs: Provide the row address for ACTIVATE commands, and the column address and auto precharge bit (A10) for READ/WRITE commands, to select one location out of the memory array in the respective bank. A10 sampled (See Datasheet)", L3 A2 (in) "Address inputs: Provide the row address for ACTIVATE commands, and the column address and auto precharge bit (A10) for READ/WRITE commands, to select one location out of the memory array in the respective bank. A10 sampled (See Datasheet)", L7 A1 (in) "Address inputs: Provide the row address for ACTIVATE commands, and the column address and auto precharge bit (A10) for READ/WRITE commands, to select one location out of the memory array in the respective bank. A10 sampled (See Datasheet)", L8 A4 (in) "Address inputs: Provide the row address for ACTIVATE commands, and the column address and auto precharge bit (A10) for READ/WRITE commands, to select one location out of the memory array in the respective bank. A10 sampled (See Datasheet)", L9 VSS (power) "Ground.", M1 VDD (power) "Power supply: 1.35V (1.283V to 1.45V operational; compatible with 1.5V operation)", M2 A7 (in) "Address inputs: Provide the row address for ACTIVATE commands, and the column address and auto precharge bit (A10) for READ/WRITE commands, to select one location out of the memory array in the respective bank. A10 sampled (See Datasheet)", M3 A9 (in) "Address inputs: Provide the row address for ACTIVATE commands, and the column address and auto precharge bit (A10) for READ/WRITE commands, to select one location out of the memory array in the respective bank. A10 sampled (See Datasheet)", M7 A11 (in) "Address inputs: Provide the row address for ACTIVATE commands, and the column address and auto precharge bit (A10) for READ/WRITE commands, to select one location out of the memory array in the respective bank. A10 sampled (See Datasheet)", M8 A6 (in) "Address inputs: Provide the row address for ACTIVATE commands, and the column address and auto precharge bit (A10) for READ/WRITE commands, to select one location out of the memory array in the respective bank. A10 sampled (See Datasheet)", M9 VDD (power) "Power supply: 1.35V (1.283V to 1.45V operational; compatible with 1.5V operation)", N1 VSS (power) "Ground.", N2 RESET# (in) "Reset: RESET# is an active LOW CMOS input referenced to VSS. The RESET# input receiver is a CMOS input defined as a rail-to-rail signal with DC HIGH >= 0.8 x VDDQ and DC LOW =< 0.2 x VDDQ. RESET# assertion and desertion are (See Datasheet)", N3 A13 (in) "Address inputs: Provide the row address for ACTIVATE commands, and the column address and auto precharge bit (A10) for READ/WRITE commands, to select one location out of the memory array in the respective bank. A10 sampled (See Datasheet)", N7 A14 (in) "Address inputs: Provide the row address for ACTIVATE commands, and the column address and auto precharge bit (A10) for READ/WRITE commands, to select one location out of the memory array in the respective bank. A10 sampled (See Datasheet)", N8 A8 (in) "Address inputs: Provide the row address for ACTIVATE commands, and the column address and auto precharge bit (A10) for READ/WRITE commands, to select one location out of the memory array in the respective bank. A10 sampled (See Datasheet)", N9 VSS (power) "Ground."
text: MT41K1G8; TwinDie

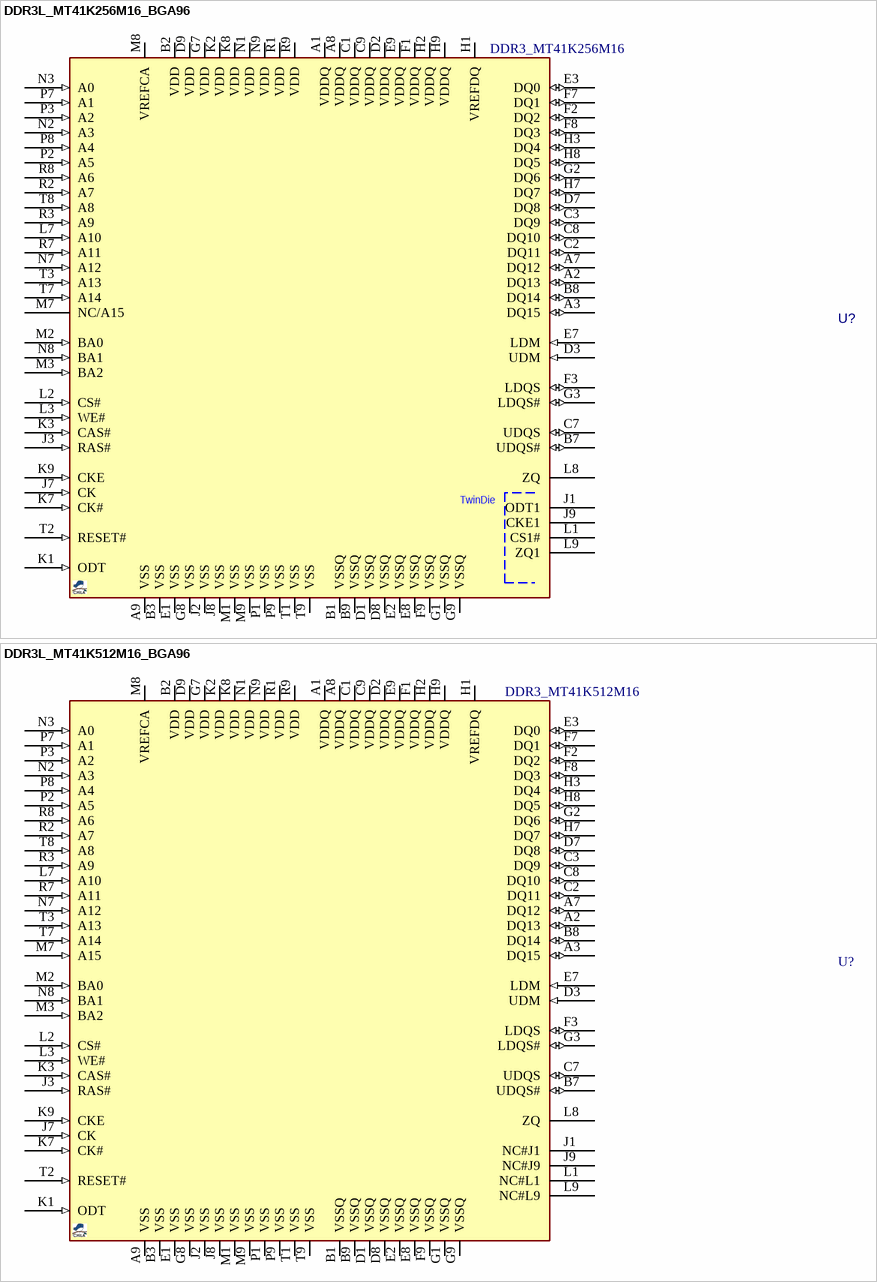
[diagram p6: symbols DDR3L_MT41K256M16_BGA96 to DDR3L_MT41K512M16_BGA96]

## DDR3L_MT41K256M16_BGA96
designator U?, comment DDR3_MT41K256M16
DDR3L SDRAM, 4Gb (256Mb X16), 1.35V, FBGA-96; MANF_P#: MT41K256M16TW-107 AIT:P; MANF: MICRON; PARAM: 4Gb (256Mb X16), 933MHz; PARAM2: 1.35V, -40~95oC; ASSEMBLY: ASSEMBLY; PRICE: 16$; VALUE: DDR3_MT41K256M16
footprint BGA80_96_9X16B (96-Ball FBGA, 0.8mm pitch, 14x10x1.1 mm)
pins: A1 VDDQ (power), A2 DQ13 (io), A3 DQ15 (io), A7 DQ12 (io), A8 VDDQ (power), A9 VSS (power), B1 VSSQ (power), B2 VDD (power), B3 VSS (power), B7 UDQS# (io), B8 DQ14 (io), B9 VSSQ (power), C1 VDDQ (power), C2 DQ11 (io), C3 DQ9 (io), C7 UDQS (io), C8 DQ10 (io), C9 VDDQ (power), D1 VSSQ (power), D2 VDDQ (power), D3 UDM (in), D7 DQ8 (io), D8 VSSQ (power), D9 VDD (power), E1 VSS (power), E2 VSSQ (power), E3 DQ0 (io), E7 LDM (in), E8 VSSQ (power), E9 VDDQ (power), F1 VDDQ (power), F2 DQ2 (io), F3 LDQS (io), F7 DQ1 (io), F8 DQ3 (io), F9 VSSQ (power), G1 VSSQ (power), G2 DQ6 (io), G3 LDQS# (io), G7 VDD (power), G8 VSS (power), G9 VSSQ (power), H1 VREFDQ, H2 VDDQ (power), H3 DQ4 (io), H7 DQ7 (io), H8 DQ5 (io), H9 VDDQ (power), J1 ODT1, J2 VSS (power), J3 RAS# (in), J7 CK (in), J8 VSS (power), J9 CKE1, K1 ODT (in), K2 VDD (power), K3 CAS# (in), K7 CK# (in), K8 VDD (power), K9 CKE (in), L1 CS1#, L2 CS# (in), L3 WE# (in), L7 A10 (in), L8 ZQ, L9 ZQ1, M1 VSS (power), M2 BA0 (in), M3 BA2 (in), M7 NC/A15, M8 VREFCA, M9 VSS (power), N1 VDD (power), N2 A3 (in), N3 A0 (in), N7 A12 (in), N8 BA1 (in), N9 VDD (power), P1 VSS (power), P2 A5 (in), P3 A2 (in), P7 A1 (in), P8 A4 (in), P9 VSS (power), R1 VDD (power), R2 A7 (in), R3 A9 (in), R7 A11 (in), R8 A6 (in), R9 VDD (power), T1 VSS (power), T2 RESET# (in), T3 A13 (in), T7 A14 (in), T8 A8 (in), T9 VSS (power)
text: TwinDie

## DDR3L_MT41K512M16_BGA96
designator U?, comment DDR3_MT41K512M16
DDR3L SDRAM, 8Gb (512Mb X16), 1.35V, FBGA-96; DESC: MT41K512M16HA-125:A; MANF: MICRON; MANF_P#: MT41K512M16HA-125; PARAM2: 1.35V, 0~95oC; PARAM: 512Mb X16, 800MHz; PRICE: 31$; VALUE: DDR3_MT41K512M16
footprint BGA80_96_9X16B (96-Ball FBGA, 0.8mm pitch, 14x10x1.1 mm)
pins: A1 VDDQ (power), A2 DQ13 (io), A3 DQ15 (io), A7 DQ12 (io), A8 VDDQ (power), A9 VSS (power), B1 VSSQ (power), B2 VDD (power), B3 VSS (power), B7 UDQS# (io), B8 DQ14 (io), B9 VSSQ (power), C1 VDDQ (power), C2 DQ11 (io), C3 DQ9 (io), C7 UDQS (io), C8 DQ10 (io), C9 VDDQ (power), D1 VSSQ (power), D2 VDDQ (power), D3 UDM (in), D7 DQ8 (io), D8 VSSQ (power), D9 VDD (power), E1 VSS (power), E2 VSSQ (power), E3 DQ0 (io), E7 LDM (in), E8 VSSQ (power), E9 VDDQ (power), F1 VDDQ (power), F2 DQ2 (io), F3 LDQS (io), F7 DQ1 (io), F8 DQ3 (io), F9 VSSQ (power), G1 VSSQ (power), G2 DQ6 (io), G3 LDQS# (io), G7 VDD (power), G8 VSS (power), G9 VSSQ (power), H1 VREFDQ, H2 VDDQ (power), H3 DQ4 (io), H7 DQ7 (io), H8 DQ5 (io), H9 VDDQ (power), J1 NC#J1, J2 VSS (power), J3 RAS# (in), J7 CK (in), J8 VSS (power), J9 NC#J9, K1 ODT (in), K2 VDD (power), K3 CAS# (in), K7 CK# (in), K8 VDD (power), K9 CKE (in), L1 NC#L1, L2 CS# (in), L3 WE# (in), L7 A10 (in), L8 ZQ, L9 NC#L9, M1 VSS (power), M2 BA0 (in), M3 BA2 (in), M7 A15 (in), M8 VREFCA, M9 VSS (power), N1 VDD (power), N2 A3 (in), N3 A0 (in), N7 A12 (in), N8 BA1 (in), N9 VDD (power), P1 VSS (power), P2 A5 (in), P3 A2 (in), P7 A1 (in), P8 A4 (in), P9 VSS (power), R1 VDD (power), R2 A7 (in), R3 A9 (in), R7 A11 (in), R8 A6 (in), R9 VDD (power), T1 VSS (power), T2 RESET# (in), T3 A13 (in), T7 A14 (in), T8 A8 (in), T9 VSS (power)

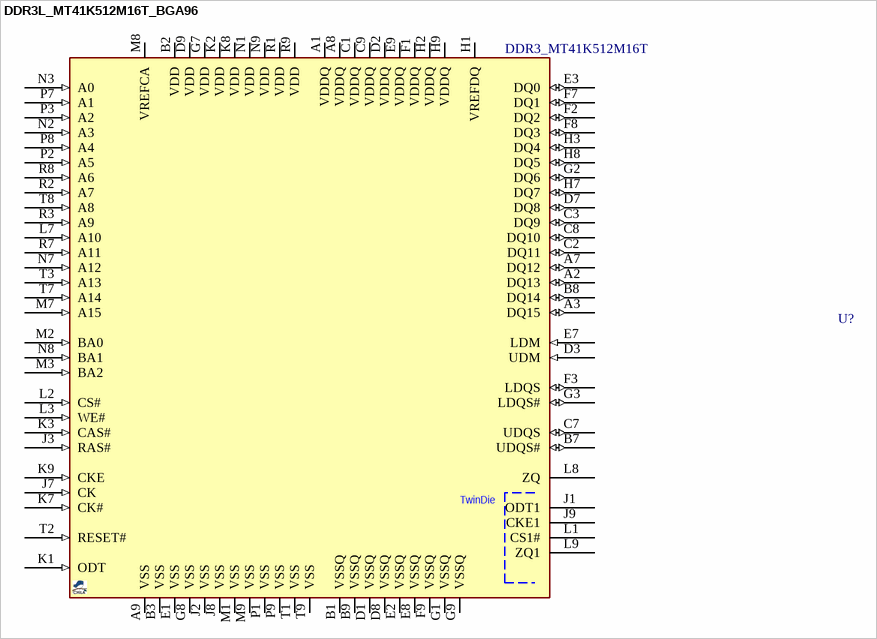
[diagram p7: symbol DDR3L_MT41K512M16T_BGA96]

## DDR3L_MT41K512M16T_BGA96
designator U?, comment DDR3_MT41K512M16T
DDR3L SDRAM, 8Gb (512Mb X16), 1.35V, FBGA-96, TwinDie selfRefresh; MANF: MICRON; MANF_P#: MT41K512M16TNA-107; PARAM2: 1.35V, 0~95oC; PARAM: 512Mb X16, 933MHz; VALUE: DDR3_MT41K512M16T
footprint BGA80_96_9X16B (96-Ball FBGA, 0.8mm pitch, 14x10x1.1 mm)
pins: A1 VDDQ (power), A2 DQ13 (io), A3 DQ15 (io), A7 DQ12 (io), A8 VDDQ (power), A9 VSS (power), B1 VSSQ (power), B2 VDD (power), B3 VSS (power), B7 UDQS# (io), B8 DQ14 (io), B9 VSSQ (power), C1 VDDQ (power), C2 DQ11 (io), C3 DQ9 (io), C7 UDQS (io), C8 DQ10 (io), C9 VDDQ (power), D1 VSSQ (power), D2 VDDQ (power), D3 UDM (in), D7 DQ8 (io), D8 VSSQ (power), D9 VDD (power), E1 VSS (power), E2 VSSQ (power), E3 DQ0 (io), E7 LDM (in), E8 VSSQ (power), E9 VDDQ (power), F1 VDDQ (power), F2 DQ2 (io), F3 LDQS (io), F7 DQ1 (io), F8 DQ3 (io), F9 VSSQ (power), G1 VSSQ (power), G2 DQ6 (io), G3 LDQS# (io), G7 VDD (power), G8 VSS (power), G9 VSSQ (power), H1 VREFDQ, H2 VDDQ (power), H3 DQ4 (io), H7 DQ7 (io), H8 DQ5 (io), H9 VDDQ (power), J1 ODT1, J2 VSS (power), J3 RAS# (in), J7 CK (in), J8 VSS (power), J9 CKE1, K1 ODT (in), K2 VDD (power), K3 CAS# (in), K7 CK# (in), K8 VDD (power), K9 CKE (in), L1 CS1#, L2 CS# (in), L3 WE# (in), L7 A10 (in), L8 ZQ, L9 ZQ1, M1 VSS (power), M2 BA0 (in), M3 BA2 (in), M7 A15 (in), M8 VREFCA, M9 VSS (power), N1 VDD (power), N2 A3 (in), N3 A0 (in), N7 A12 (in), N8 BA1 (in), N9 VDD (power), P1 VSS (power), P2 A5 (in), P3 A2 (in), P7 A1 (in), P8 A4 (in), P9 VSS (power), R1 VDD (power), R2 A7 (in), R3 A9 (in), R7 A11 (in), R8 A6 (in), R9 VDD (power), T1 VSS (power), T2 RESET# (in), T3 A13 (in), T7 A14 (in), T8 A8 (in), T9 VSS (power)
text: TwinDie